# EAGLE library part TPSM33625RDNR (library 2026-03-03_20-46-46_Library)
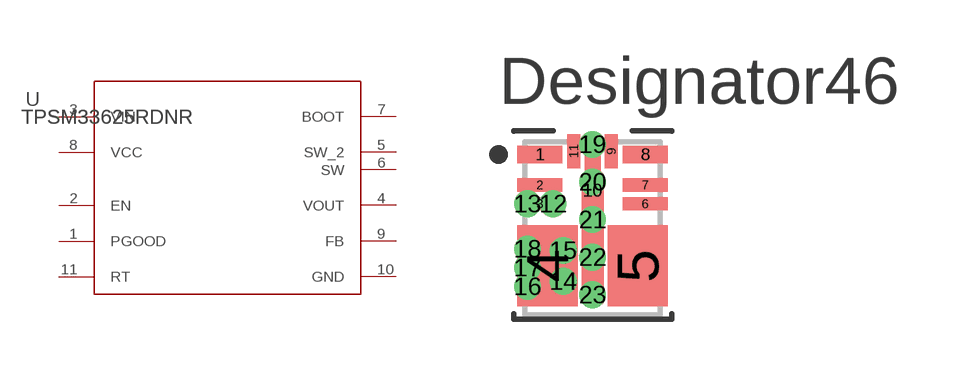
[diagram p0: symbol with the pads of RDN0011A-MFG; footprint RDN0011A-MFG]

Designator prefix U

## TPSM33625RDNRRDN0011A-MFG (Copyright: Copyright (C) 2026 Ultra Librarian. All rights reserved.; Datasheet: https://www.ti.com/lit/gpn/tpsm33625; Description: 3-V to 36-V input, 1-V to 15-V output, 2.5-A synchronous buck power module 11-QFN-FCMOD -40 to 125; Manufacturer_Name: Texas Instruments; Manufacturer_Part_Number: TPSM33625RDNR; RefDes: RefDes; TYPE: TYPE)  [RDN0011A-MFG]
1  PGOOD  oc
2  EN  in
3  VIN  pwr
4  VOUT  pwr
5  SW_2  pas
6  SW  pas
7  BOOT  pas
8  VCC  pas
9  FB  pas
10  GND  pwr
11  RT  pas

## Footprint RDN0011A-MFG (pad centres in mm)
smd 1.2 x 0.475: 1 -1.4,1.962; 8 1.4,1.962
smd 1.2 x 0.35: 2 -1.4,1.15; 3 -1.4,0.65; 6 1.4,0.65; 7 1.4,1.15
smd 1.6 x 2.15: 4 -1.2,-1; 5 1.2,-1
smd 0.35 x 0.9: 9 0.5,2.05; 11 -0.5,2.05
smd 0.504 x 0.504: 10 0,1.005
drill 0.203 pad 0.35 round: 12 -1.05,0.65; 13 -1.73,0.65
drill 0.203 pad 0.5 round: 14 -0.78,-1.41; 15 -0.78,-0.59; 16 -1.73,-1.55; 17 -1.73,-1.05; 18 -1.73,-0.55; 21 0,0.23; 22 0,-0.77; 23 0,-1.77
drill 0.203 pad 0.4 round: 19 0,2.23; 20 0,1.23